# EAGLE library part W25Q (library LARS_409_MC)
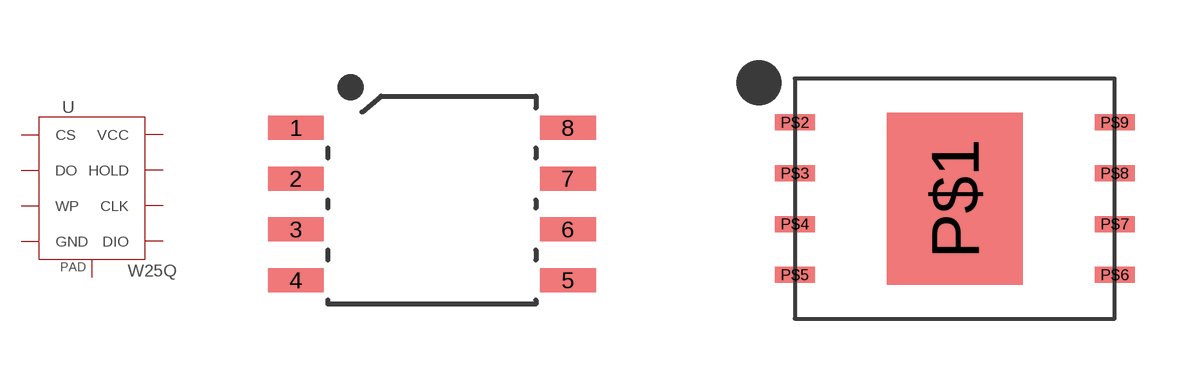
[diagram p31: symbol with the pads of SOIC-8(5.3мм); footprints SOIC-8(5.3мм), WSON8X6-MM]

Designator prefix U

## W25QW25Q  [SOIC-8(5.3мм)]
1  CS
2  DO
3  WP
4  GND
5  DIO
6  CLK
7  HOLD
8  VCC

## W25QQFN  [WSON8X6-MM]
P$1  P$1
P$2  CS
P$3  DO
P$4  WP
P$5  GND
P$6  DIO
P$7  CLK
P$8  HOLD
P$9  VCC

## Footprint SOIC-8(5.3мм) (pad centres in mm)
smd 1.4 x 0.6: 1 -3.4,1.905; 2 -3.4,0.635; 3 -3.4,-0.635; 4 -3.4,-1.905; 5 3.4,-1.905; 6 3.4,-0.635; 7 3.4,0.635; 8 3.4,1.905

## Footprint WSON8X6-MM (pad centres in mm)
smd 3.4 x 4.3: P$1 0,0
smd 1 x 0.4: P$2 -4,1.905; P$3 -4,0.635; P$4 -4,-0.635; P$5 -4,-1.905; P$6 4,-1.905; P$7 4,-0.635; P$8 4,0.635; P$9 4,1.905